# Altium footprint library Converter_DCDC.PcbLib: 115 footprints (part 3 of 8)
Each footprint in its own frame and in the unit in brackets; x right, y up, seen from the top. Pads: shape width x height; smd on the part's side, far side on the other; paste and mask are expansions set on the pad; w line width, h text height; cw(c..) or ccw(c..) is an arc to the next point about the centre after c.
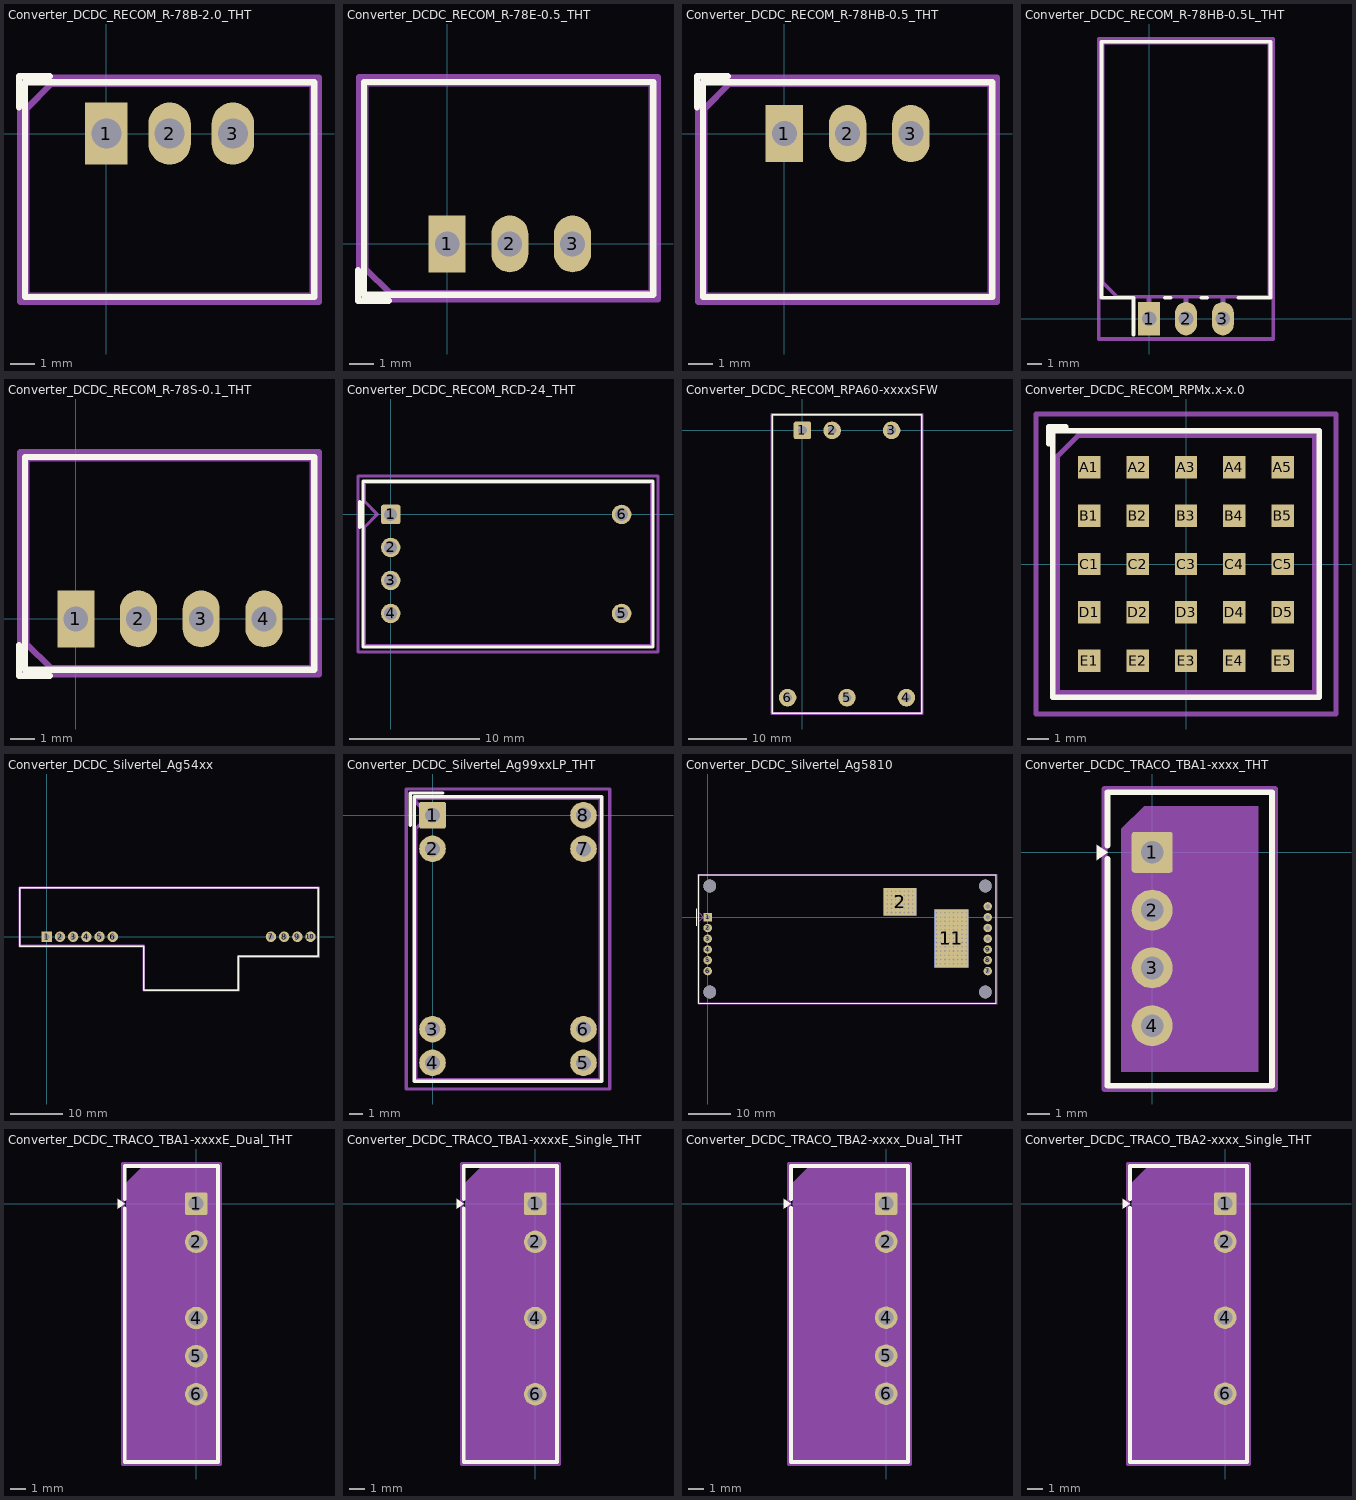
[diagram p2: the footprints below, top view; thin cyan lines are the x and y axes]

## Converter_DCDC_RECOM_R-78B-2.0_THT [mm]
pads (3):
  rect 1.7x2.5 hole 1.2: 1(0,0)
  rrect100% 1.7x2.5 hole 1.2: 2(2.54,0) 3(5.08,0)
F.SilkS:
  lines w0.254: -3.51,1.06 -3.51,2.3 -2.27,2.3 ; -3.27,-6.56 8.35,-6.56 8.35,2.06 -3.27,2.06 -3.27,-6.56
Top Assembly:
  lines w0.254: -3.21,-6.5 8.29,-6.5 8.29,2 -2.21,2 -3.21,1 -3.21,-6.5
  text "'.Designator'" at -1.507,-3.09 h1
Top Courtyard:
  lines w0.254: -3.46,-6.75 8.54,-6.75 8.54,2.25 -3.46,2.25 -3.46,-6.75
Top Designator:
  text ".Designator" at -5.103,-2.733 h1.52

## Converter_DCDC_RECOM_R-78E-0.5_THT [mm]
pads (3):
  rect 1.5x2.3 hole 1: 1(0,0)
  rrect100% 1.5x2.3 hole 1: 2(2.54,0) 3(5.08,0)
F.SilkS:
  lines w0.254: -3.61,-1.06 -3.61,-2.3 -2.37,-2.3 ; -3.37,-2.06 8.35,-2.06 8.35,6.56 -3.37,6.56 -3.37,-2.06
Top Assembly:
  lines w0.254: -3.31,-1 -2.31,-2 8.29,-2 8.29,6.5 -3.31,6.5 -3.31,-1
  text "'.Designator'" at -1.507,1.41 h1
Top Courtyard:
  lines w0.254: -3.57,-2.25 8.54,-2.25 8.54,6.75 -3.57,6.75 -3.57,-2.25
Top Designator:
  text ".Designator" at -5.153,1.717 h1.52

## Converter_DCDC_RECOM_R-78HB-0.5_THT [mm]
pads (3):
  rect 1.5x2.3 hole 1: 1(0,0)
  rrect100% 1.5x2.3 hole 1: 2(2.54,0) 3(5.08,0)
F.SilkS:
  lines w0.254: -3.51,1.06 -3.51,2.3 -2.27,2.3 ; -3.27,-6.56 8.35,-6.56 8.35,2.06 -3.27,2.06 -3.27,-6.56
Top Assembly:
  lines w0.254: -3.21,-6.5 8.29,-6.5 8.29,2 -2.21,2 -3.21,1 -3.21,-6.5
  text "'.Designator'" at -1.507,-3.09 h1
Top Courtyard:
  lines w0.254: -3.46,-6.75 8.54,-6.75 8.54,2.25 -3.46,2.25 -3.46,-6.75
Top Designator:
  text ".Designator" at -5.103,-2.733 h1.52

## Converter_DCDC_RECOM_R-78HB-0.5L_THT [mm]
pads (3):
  rect 1.5x2.3 hole 1: 1(0,0)
  rrect100% 1.5x2.3 hole 1: 2(2.54,0) 3(5.08,0)
F.SilkS:
  lines w0.254: -1.07,-1.09 -1.07,1.44 -3.27,1.44 -3.27,19.06 8.35,19.06 8.35,1.44 6.15,1.44 ; 1.07,1.44 1.47,1.44 ; 3.61,1.44 4.01,1.44
Top Assembly:
  lines w0.254: -0.05,0 -0.05,1.5 ; 0.05,0 0.05,1.5 ; 2.49,0 2.49,1.5 ; 2.59,0 2.59,1.5 ; 5.03,0 5.03,1.5 ; 5.13,0 5.13,1.5 ; -3.21,2.5 -2.21,1.5 8.29,1.5 8.29,19 -3.21,19 -3.21,2.5
  text "'.Designator'" at -1.507,9.41 h1
Top Courtyard:
  lines w0.254: -3.46,-1.4 8.54,-1.4 8.54,19.25 -3.46,19.25 -3.46,-1.4
Top Designator:
  text ".Designator" at -5.078,8.417 h1.52

## Converter_DCDC_RECOM_R-78S-0.1_THT [mm]
pads (4):
  rect 1.5x2.3 hole 1: 1(0,0)
  rrect100% 1.5x2.3 hole 1: 2(2.54,0) 3(5.08,0) 4(7.62,0)
F.SilkS:
  lines w0.254: -2.3,-1.06 -2.3,-2.3 -1.06,-2.3 ; -2.06,-2.06 9.66,-2.06 9.66,6.56 -2.06,6.56 -2.06,-2.06
Top Assembly:
  lines w0.254: -2,-1 -1,-2 9.6,-2 9.6,6.5 -2,6.5 -2,-1
  text "'.Designator'" at -0.237,1.41 h1
Top Courtyard:
  lines w0.254: -2.25,-2.25 9.85,-2.25 9.85,6.75 -2.25,6.75 -2.25,-2.25
Top Designator:
  text ".Designator" at -3.843,1.717 h1.52

## Converter_DCDC_RECOM_RCD-24_THT [mm]
pads (6):
  rrect25% 1.5x1.5 hole 1: 1(0,0)
  round 1.5 hole 1: 2(0,-2.54) 3(0,-5.08) 4(0,-7.62) 5(17.78,-7.62) 6(17.78,0)
F.SilkS:
  lines w0.254: -2.38,-1 -2.38,1 ; -2.13,-10.2 20.19,-10.2 20.19,2.56 -2.13,2.56 -2.13,-10.2
Top Assembly:
  lines w0.254: -2.02,-10.09 20.08,-10.09 20.08,2.46 -2.02,2.46 -2.02,1 -1.02,0 -2.02,-1 -2.02,-10.09
  text "'.Designator'" at 4.843,-4.65 h1
Top Courtyard:
  lines w0.254: -2.52,-10.59 20.58,-10.59 20.58,2.96 -2.52,2.96 -2.52,-10.59
Top Designator:
  text ".Designator" at 1.412,-4.323 h1.52

## Converter_DCDC_RECOM_RPA60-xxxxSFW [mm]
pads (6):
  rrect25% 3x3 hole 1.5: 1(0,0)
  round 3 hole 1.5: 2(5.08,0) 3(15.24,0) 4(17.78,-45.72) 5(7.62,-45.72) 6(-2.54,-45.72)
F.SilkS:
  lines w0.254: -5.2,-48.38 20.44,-48.38 20.44,2.66 -5.2,2.66 -5.2,-48.38
Top Assembly:
  lines w0.254: -5.08,-48.26 20.32,-48.26 20.32,2.54 -5.08,2.54 -5.08,-48.26
  text "'.Designator'" at 3.673,-23.61 h1
Top Courtyard:
  lines w0.254: -5.33,-48.51 20.57,-48.51 20.57,2.79 -5.33,2.79 -5.33,-48.51
Top Designator:
  text ".Designator" at 0.002,-23.368 h1.52

## Converter_DCDC_RECOM_RPMx.x-x.0 [mm]
pads (25):
  rect 1.06x1.06 smd: A1(-4.58,4.58) A2(-2.29,4.58) A3(0,4.58) A4(2.29,4.58) A5(4.58,4.58) B1(-4.58,2.29) B2(-2.29,2.29) B3(0,2.29) B4(2.29,2.29) B5(4.58,2.29) C1(-4.58,0) C2(-2.29,0) C3(0,0) C4(2.29,0) C5(4.58,0) D1(-4.58,-2.29) D2(-2.29,-2.29) D3(0,-2.29) D4(2.29,-2.29) D5(4.58,-2.29) E1(-4.58,-4.58) E2(-2.29,-4.58) E3(0,-4.58) E4(2.29,-4.58) E5(4.58,-4.58)
F.SilkS:
  lines w0.254: -6.5,5.7 -6.5,6.5 -5.7,6.5 ; -6.3,-6.3 6.3,-6.3 6.3,6.3 -6.3,6.3 -6.3,-6.3
Top Assembly:
  lines w0.254: -6.095,-6.095 6.095,-6.095 6.095,6.095 -5.095,6.095 -6.095,5.095 -6.095,-6.095
  text "'.Designator'" at -4.047,-0.84 h1
Top Courtyard:
  lines w0.254: -7.1,-7.1 7.1,-7.1 7.1,7.1 -7.1,7.1 -7.1,-7.1
Top Designator:
  text ".Designator" at -7.618,-0.508 h1.52

## Converter_DCDC_Silvertel_Ag54xx [mm]
pads (10):
  rect 2x2 hole 1.1: 1(0,0)
  round 2 hole 1.1: 2(2.54,0) 3(5.08,0) 4(7.62,0) 5(10.16,0) 6(12.7,0) 7(43.18,0) 8(45.72,0) 9(48.26,0) 10(50.8,0)
F.SilkS:
  lines w0.254: -5.23,-1.8 18.67,-1.8 18.67,-10.3 36.91,-10.3 36.91,-3.8 52.31,-3.8 52.31,9.44 -5.23,9.44 -5.23,-1.8
Top Assembly:
  lines w0.254: -5.11,-1.68 18.79,-1.68 18.79,-10.18 36.79,-10.18 36.79,-3.68 52.19,-3.68 52.19,9.32 -5.11,9.32 -5.11,-1.68
  text "'.Designator'" at 19.493,1.98 h1
Top Courtyard:
  lines w0.254: -5.36,-1.93 18.54,-1.93 18.54,-10.43 37.04,-10.43 37.04,-3.93 52.44,-3.93 52.44,9.57 -5.36,9.57 -5.36,-1.93
Top Designator:
  text ".Designator" at 15.922,-0.938 h1.52

## Converter_DCDC_Silvertel_Ag99xxLP_THT [mm]
pads (8):
  rrect12% 2x2 hole 1.1: 1(0,0)
  round 2 hole 1.12: 2(0,-2.54) 3(0,-16.13) 4(0,-18.67) 5(11.38,-18.67) 6(11.38,-16.13) 7(11.38,-2.54) 8(11.38,0)
F.SilkS:
  lines w0.254: -1.68,-0.78 -1.68,1.67 0.77,1.67 ; -1.38,-20.05 12.76,-20.05 12.76,1.38 -1.38,1.38 -1.38,-20.05
Top Assembly:
  lines w0.254: -1.31,1.27 12.65,1.27 12.65,-19.94 -1.27,-19.94 -1.27,-1.01 -0.27,-0.01 -1.27,0.99 -1.27,1.27
  text "'.Designator'" at 6.53,-13.367 h1
Top Courtyard:
  lines w0.254: -1.97,-20.64 13.35,-20.64 13.35,1.97 -1.97,1.97 -1.97,-20.64
Top Designator:
  text ".Designator" at -1.928,-9.843 h1.52

## Converter_DCDC_Silvertel_Ag5810 [mm]
pads (167):
  rect 2x2 hole 1.1: 1(0,0)
  round 2 hole 1.1: 2(0,-2.54) 3(0,-5.08) 4(0,-7.62) 5(0,-10.16) 6(0,-12.7) 7(66.04,-12.7) 8(66.04,-10.16) 9(66.04,-7.62) 10(66.04,-5.08) 11(66.04,-2.54) 12(66.04,0) 13(66.04,2.54)
  round 0.8 hole 0.4: 2(42.355,1.11) 2(42.355,2.11) 2(42.355,3.11) 2(42.355,4.11) 2(42.355,5.11) 2(42.355,6.11) 2(43.334,5.119) 2(43.355,1.11) 2(43.355,2.11) 2(43.355,3.11) 2(43.355,4.11) 2(43.355,6.11) 2(44.355,1.11) 2(44.355,2.11) 2(44.355,3.11) 2(44.355,4.11) 2(44.355,5.11) 2(44.355,6.11) 2(45.338,5.119) 2(45.355,1.11) 2(45.355,2.11) 2(45.355,3.11) 2(45.355,4.11) 2(45.355,6.11) 2(46.35,5.119) 2(46.355,1.11) 2(46.355,2.11) 2(46.355,3.11) 2(46.355,4.11) 2(46.355,6.11) 2(47.341,5.119) 2(47.355,1.11) 2(47.355,2.11) 2(47.355,3.11) 2(47.355,4.11) 2(47.355,6.11) 2(48.353,6.11) 2(48.355,1.11) 2(48.355,2.11) 2(48.355,3.11) 2(48.355,4.11) 2(48.355,5.11) 11(53.928,-8.965) 11(53.98,-10.985) 11(53.98,-9.985) 11(53.98,-7.985) 11(53.98,-6.985) 11(53.98,-5.985) 11(53.98,-4.985) 11(53.98,-3.985) 11(53.98,-2.985) 11(53.98,-1.985) 11(53.98,-0.985) 11(53.98,0.015) 11(53.98,1.015) 11(54.928,-8.965) 11(54.98,-10.985) 11(54.98,-9.985) 11(54.98,-7.985) 11(54.98,-6.985) 11(54.98,-5.985) 11(54.98,-4.985) 11(54.98,-3.985) 11(54.98,-2.985) 11(54.98,-1.985) 11(54.98,-0.985) 11(54.98,0.015) 11(54.98,1.015) 11(55.928,-8.965) 11(55.98,-10.985) 11(55.98,-9.985) 11(55.98,-7.985) 11(55.98,-6.985) 11(55.98,-5.985) 11(55.98,-4.985) 11(55.98,-3.985) 11(55.98,-2.985) 11(55.98,-1.985) 11(55.98,-0.985) 11(55.98,0.015) 11(55.98,1.015) 11(56.915,-8.965) 11(56.968,-10.985) 11(56.968,-9.985) 11(56.968,-7.985) 11(56.968,-6.985) 11(56.968,-5.985) 11(56.968,-4.985) 11(56.968,-3.985) 11(56.968,-2.985) 11(56.968,-1.985) 11(56.968,-0.985) 11(56.968,0.015) 11(56.968,1.015) 11(57.928,-8.965) 11(57.98,-10.985) 11(57.98,-9.985) 11(57.98,-7.985) 11(57.98,-6.985) 11(57.98,-5.985) 11(57.98,-4.985) 11(57.98,-3.985) 11(57.98,-2.985) 11(57.98,-1.985) 11(57.98,-0.985) 11(57.98,0.015) 11(57.98,1.015) 11(58.928,-8.965) 11(58.98,-10.985) 11(58.98,-9.985) 11(58.98,-7.985) 11(58.98,-6.985) 11(58.98,-5.985) 11(58.98,-4.985) 11(58.98,-3.985) 11(58.98,-2.985) 11(58.98,-1.985) 11(58.98,-0.985) 11(58.98,0.015) 11(58.98,1.015) 11(59.928,-8.965) 11(59.98,-10.985) 11(59.98,-9.985) 11(59.98,-7.985) 11(59.98,-6.985) 11(59.98,-5.985) 11(59.98,-4.985) 11(59.98,-3.985) 11(59.98,-2.985) 11(59.98,-1.985) 11(59.98,-0.985) 11(59.98,0.015) 11(59.98,1.015) 11(60.928,-8.965) 11(60.98,-10.985) 11(60.98,-9.985) 11(60.98,-7.985) 11(60.98,-6.985) 11(60.98,-5.985) 11(60.98,-4.985) 11(60.98,-3.985) 11(60.98,-2.985) 11(60.98,-1.985) 11(60.98,-0.985) 11(60.98,0.015) 11(60.98,1.015)
  rect 7.75x6.5 smd: 2(45.355,3.61)
  rect 7.75x6.5 smd far side: 2(45.355,3.61)
  rect 8x13.75 smd: 11(57.48,-5.015)
  rect 8x13.75 smd far side: 11(57.48,-5.015)
  round 3 hole 3: Un1(0.49,7.37) Un2(0.49,-17.65) Un3(65.49,7.37) Un4(65.49,-17.65)
F.SilkS:
  lines w0.254: -2.52,-2 -2.52,2 ; -2.12,-20.26 68.1,-20.26 68.1,9.98 -2.12,9.98 -2.12,-20.26
Top Assembly:
  lines w0.254: -2,-1 -1,0 -2,1 ; -2,-20.14 67.98,-20.14 67.98,9.86 -2,9.86 -2,-20.14
  text "'.Designator'" at 28.943,-5.98 h1
Top Courtyard:
  lines w0.254: -2.25,-20.39 68.23,-20.39 68.23,10.11 -2.25,10.11 -2.25,-20.39
Top Designator:
  text ".Designator" at 25.237,-5.648 h1.52

## Converter_DCDC_TRACO_TBA1-xxxx_THT [mm]
pads (4):
  rrect14% 1.8x1.8 hole 1: 1(0,0)
  round 1.8 hole 1: 2(0,-2.54) 3(0,-5.08) 4(0,-7.62)
F.SilkS:
  region: -1.96,0 -2.43,-0.34 -2.43,0.34
  lines w0.254: -1.96,-0.296 -1.96,-10.26 5.26,-10.26 5.26,2.64 -1.96,2.64 -1.96,0.296
Top Assembly:
  region: 4.65,-9.65 -1.35,-9.65 -1.35,1.03 -0.35,2.03 4.65,2.03
  text "'.Designator'" at -2.397,-4.65 h1
Top Courtyard:
  lines w0.254: -2.1,-10.4 5.4,-10.4 5.4,2.78 -2.1,2.78 -2.1,-10.4
Top Designator:
  text ".Designator" at -6.118,-4.318 h1.52

## Converter_DCDC_TRACO_TBA1-xxxxE_Dual_THT [mm]
pads (5):
  rrect17% 1.5x1.5 hole 1: 1(0,0)
  round 1.5 hole 1: 2(0,-2.54) 4(0,-7.62) 5(0,-10.16) 6(0,-12.7)
F.SilkS:
  region: -4.76,0 -5.23,-0.34 -5.23,0.34
  lines w0.254: -4.76,-0.296 -4.76,-17.21 1.46,-17.21 1.46,2.51 -4.76,2.51 -4.76,0.296
Top Assembly:
  region: 1.35,-17.1 -4.65,-17.1 -4.65,1.4 -3.65,2.4 1.35,2.4
  text "'.Designator'" at -5.697,-8.19 h1
Top Courtyard:
  lines w0.254: -4.9,-17.35 1.6,-17.35 1.6,2.65 -4.9,2.65 -4.9,-17.35
Top Designator:
  text ".Designator" at -9.418,-7.858 h1.52

## Converter_DCDC_TRACO_TBA1-xxxxE_Single_THT [mm]
pads (4):
  rrect17% 1.5x1.5 hole 1: 1(0,0)
  round 1.5 hole 1: 2(0,-2.54) 4(0,-7.62) 6(0,-12.7)
F.SilkS:
  region: -4.76,0 -5.23,-0.34 -5.23,0.34
  lines w0.254: -4.76,-0.296 -4.76,-17.21 1.46,-17.21 1.46,2.51 -4.76,2.51 -4.76,0.296
Top Assembly:
  region: 1.35,-17.1 -4.65,-17.1 -4.65,1.4 -3.65,2.4 1.35,2.4
  text "'.Designator'" at -5.697,-8.19 h1
Top Courtyard:
  lines w0.254: -4.9,-17.35 1.6,-17.35 1.6,2.65 -4.9,2.65 -4.9,-17.35
Top Designator:
  text ".Designator" at -9.418,-7.858 h1.52

## Converter_DCDC_TRACO_TBA2-xxxx_Dual_THT [mm]
pads (5):
  rrect17% 1.5x1.5 hole 1: 1(0,0)
  round 1.5 hole 1: 2(0,-2.54) 4(0,-7.62) 5(0,-10.16) 6(0,-12.7)
F.SilkS:
  region: -6.36,0 -6.83,-0.34 -6.83,0.34
  lines w0.254: -6.36,-0.296 -6.36,-17.26 1.46,-17.26 1.46,2.51 -6.36,2.51 -6.36,0.296
Top Assembly:
  region: 1.35,-17.15 -6.25,-17.15 -6.25,1.4 -5.25,2.4 1.35,2.4
  text "'.Designator'" at -6.497,-8.21 h1
Top Courtyard:
  lines w0.254: -6.5,-17.4 1.6,-17.4 1.6,2.65 -6.5,2.65 -6.5,-17.4
Top Designator:
  text ".Designator" at -10.169,-7.883 h1.52

## Converter_DCDC_TRACO_TBA2-xxxx_Single_THT [mm]
pads (4):
  rrect17% 1.5x1.5 hole 1: 1(0,0)
  round 1.5 hole 1: 2(0,-2.54) 4(0,-7.62) 6(0,-12.7)
F.SilkS:
  region: -6.36,0 -6.83,-0.34 -6.83,0.34
  lines w0.254: -6.36,-0.296 -6.36,-17.26 1.46,-17.26 1.46,2.51 -6.36,2.51 -6.36,0.296
Top Assembly:
  region: 1.35,-17.15 -6.25,-17.15 -6.25,1.4 -5.25,2.4 1.35,2.4
  text "'.Designator'" at -6.497,-8.21 h1
Top Courtyard:
  lines w0.254: -6.5,-17.4 1.6,-17.4 1.6,2.65 -6.5,2.65 -6.5,-17.4
Top Designator:
  text ".Designator" at -10.169,-7.883 h1.52